# Altium schematic symbol library RESISTOR - GENERIC.SchLib: 1 symbol
Pins are listed as number, name and electrical type; pins without a type are passive.

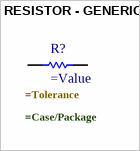
[diagram p0: symbol RESISTOR - GENERIC]

## RESISTOR - GENERIC
designator R?
.Case/Package: =Case/Package; .Tolerance: =Tolerance
pins: 1, 2